# EAGLE library part IR3101 (library m_misc)
Gate Driver Integrated Half Bridge Description IR3101 is a gate driver IC integrated half bridge FredFET designed for sub 250W (heat-sink-less) motor drive applications. The sleek and compact single-in-line package is optimized for electronic motor control in appliance applications such as fans and compressors for refrigerators. The IR3101 offers an extremely compact, high performance half-bridge inverter, in a single isolated package for a very simple design for two- phase and three-phase motor drivers. Proprietary HVIC and latch immune CMOS technologies, along with the HEXFET® power FredFET® technology (HEXFET® with ultra-fast recovery body diode characteristics), enable efficient and rugged single package construction. Propagation delays for the high and low side power FredFETs are matched thanks to the advance IC technology. Features Output power FredFets in half-bridge configuration High side gate drive designed for bootstrap operation Bootstrap diode integrated into package. Lower power level-shifting circuit Lower di/dt gate drive for better noise immunity Excellent latch immunity on all inputs and outputs ESD protection on all leads Isolation 1500 V RMS min1.6A, 500V
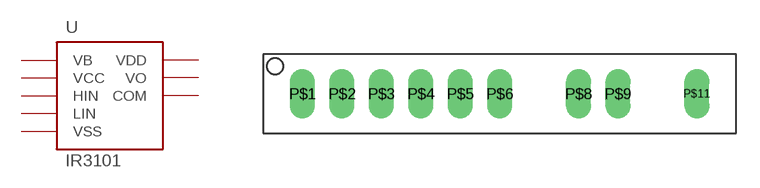
[diagram p20: symbol with the pads of IR3101; footprint IR3101]

Designator prefix -

## IR3101  [IR3101]
P$1  VCC  pas
P$2  HIN
P$3  LIN
P$5  VSS  pas
P$6  COM  pas
P$8  VB  pas
P$9  VO  pas
P$11  VDD  pas

## Footprint IR3101 (pad centres in mm)
drill 1.067 long: P$1 -12.7,0; P$2 -10.16,0; P$3 -7.62,0; P$4 -5.08,0; P$5 -2.54,0; P$6 0,0; P$8 5.08,0; P$9 7.62,0; P$11 12.7,0